# Altium schematic symbol library CAP_15pF_0603.SchLib: 1 symbol
Pins are listed as number, name and electrical type; pins without a type are passive.

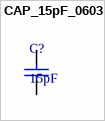
[diagram p0: symbol CAP_15pF_0603]

## CAP_15pF_0603
designator C?, comment 15pF
Manufacturer: KYOCERA AVX; Manufacturer Product Number: KGM15ACG1H150JT; Supplier 1: DigiKey; Supplier Part Number 1: 478-KGM15ACG1H150JTCT-ND
footprint Cap_0603_M (Yageo KEMET Maximum Density (Level A) Footprint, reference at pate centre. Datasheet: https://www.yageogroup.com/content/datasheet/asset/file/KEM_C1006_X5R_SMD)
footprint Cap_0603_N (Yageo KEMET Nominal Density Footprint using Nominal Land Protusion (Level B), reference at pate centre. Datasheet: https://www.yageogroup.com/content/datasheet/asset/file/KEM_C1006_X5R_SMD)
pins: 1, 2